# EAGLE library part 12PINJUKE (library Jukebox)
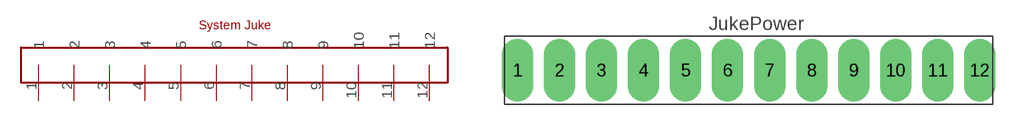
[diagram p1: symbol with the pads of 12PINJUKE; footprint 12PINJUKE]

Designator prefix -

## 12PINJUKE  [12PINJUKE]
1  1
2  2
3  3
4  4
5  5
6  6
7  7
8  8
9  9
10  10
11  11
12  12

## Footprint 12PINJUKE (pad centres in mm)
drill 1 pad 3 long: 1 -22,0; 2 -18,0; 3 -14,0; 4 -10,0; 5 -6,0; 6 -2,0; 7 2,0; 8 6,0; 9 10,0; 10 14,0; 11 18,0; 12 22,0